# Altium schematic symbol library M_BATT_HOLDER_2AAA_leaded.Schlib: 1 symbol
Pins are listed as number, name and electrical type; pins without a type are passive.

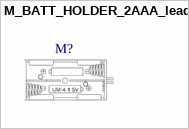
[diagram p0: symbol M_BATT_HOLDER_2AAA_leaded]

## M_BATT_HOLDER_2AAA_leaded
designator M?  (mechanical)